# EAGLE library part ADP1613 (library bootstrapsolar)
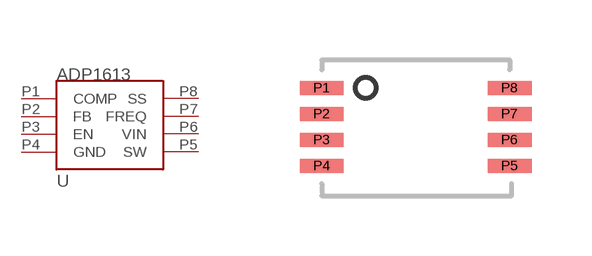
[diagram p2: symbol with the pads of RM-8; footprint RM-8]

Designator prefix -

## ADP1613  [RM-8]
P1  COMP
P2  FB
P3  EN
P4  GND
P5  SW
P6  VIN
P7  FREQ
P8  SS

## Footprint RM-8 (pad centres in mm)
smd 1.1 x 0.35: P1 -4.7,0.7; P2 -4.7,0.05; P3 -4.7,-0.6; P4 -4.7,-1.25; P5 0,-1.25; P6 0,-0.6; P7 0,0.05; P8 0,0.7